# EAGLE library part SM08B-SRSS (library con-JST SH)
JST SH series header 1.00mm pitch disconnectable crimp style connectors, horizontal (side entry type), 8 pins
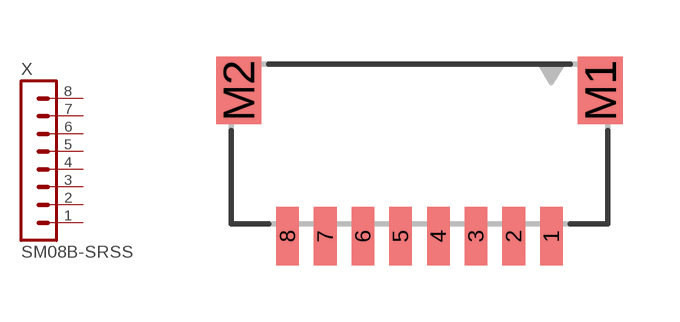
[diagram p12: symbol with the pads of SM08B-SRSS-TB; footprint SM08B-SRSS-TB]

Designator prefix X

## SM08B-SRSS-TB  [SM08B-SRSS-TB]
1  1  pas
2  2  pas
3  3  pas
4  4  pas
5  5  pas
6  6  pas
7  7  pas
8  8  pas

## Footprint SM08B-SRSS-TB (pad centres in mm)
JST SH series header 1.00mm pitch disconnectable crimp style connectors, SMT horizontal (side entry type), 8 pins
smd 0.6 x 1.55: 1 3.5,0; 2 2.5,0; 3 1.5,0; 4 0.5,0; 5 -0.5,0; 6 -1.5,0; 7 -2.5,0; 8 -3.5,0
smd 1.2 x 1.8: M1 4.8,3.875; M2 -4.8,3.875